# Altium schematic symbol library DUAL_LED_COM_ANODE.SchLib: 1 symbol
Pins are listed as number, name and electrical type; pins without a type are passive.

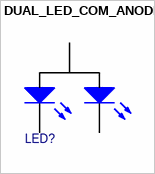
[diagram p0: symbol DUAL_LED_COM_ANODE]

## DUAL_LED_COM_ANODE
designator LED?
pins: 1 A, 2 C1, 3 C2